# EAGLE library part HEADER-2X4-B2B-MALE (library old-4ms-main-parts)
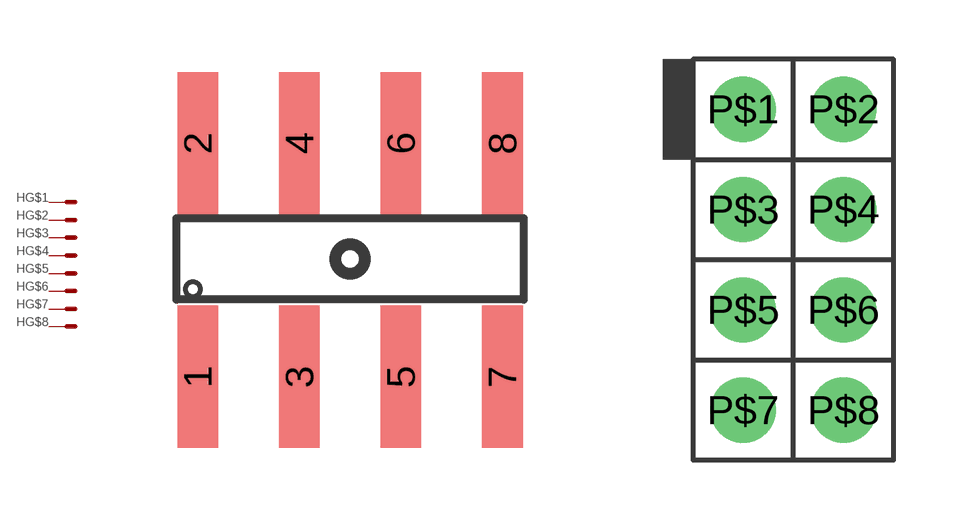
[diagram p10: symbol with the pads of HEADER-2X4-SMT; footprints HEADER-2X4-SMT, HEADER-2X4-TH]

Designator prefix H; gates G$1=HEADER-PIN-M G$2=HEADER-PIN-M G$3=HEADER-PIN-M G$4=HEADER-PIN-M G$5=HEADER-PIN-M G$6=HEADER-PIN-M G$7=HEADER-PIN-M G$8=HEADER-PIN-M

## HEADER-2X4-B2B-MALESMT  [HEADER-2X4-SMT]
1  G$1:S  pas
2  G$2:S  pas
3  G$3:S  pas
4  G$4:S  pas
5  G$5:S  pas
6  G$6:S  pas
7  G$7:S  pas
8  G$8:S  pas

## HEADER-2X4-B2B-MALE-TH  [HEADER-2X4-TH]
P$1  G$1:S  pas
P$2  G$2:S  pas
P$3  G$3:S  pas
P$4  G$4:S  pas
P$5  G$5:S  pas
P$6  G$6:S  pas
P$7  G$7:S  pas
P$8  G$8:S  pas

## Footprint HEADER-2X4-SMT (pad centres in mm)
smd 1.016 x 3.556: 1 -3.81,-2.95; 2 -3.81,2.899; 3 -1.27,-2.95; 4 -1.27,2.899; 5 1.27,-2.95; 6 1.27,2.899; 7 3.81,-2.95; 8 3.81,2.899

## Footprint HEADER-2X4-TH (pad centres in mm)
drill 0.9 pad 1.651: P$1 -1.27,3.81; P$2 1.27,3.81; P$3 -1.27,1.27; P$4 1.27,1.27; P$5 -1.27,-1.27; P$6 1.27,-1.27; P$7 -1.27,-3.81; P$8 1.27,-3.81